# Altium footprint library Jamper.PcbLib: 17 footprints (part 1 of 2)
Each footprint in its own frame and in the unit in brackets; x right, y up, seen from the top. Pads: shape width x height; smd on the part's side, far side on the other; paste and mask are expansions set on the pad; w line width, h text height; cw(c..) or ccw(c..) is an arc to the next point about the centre after c.
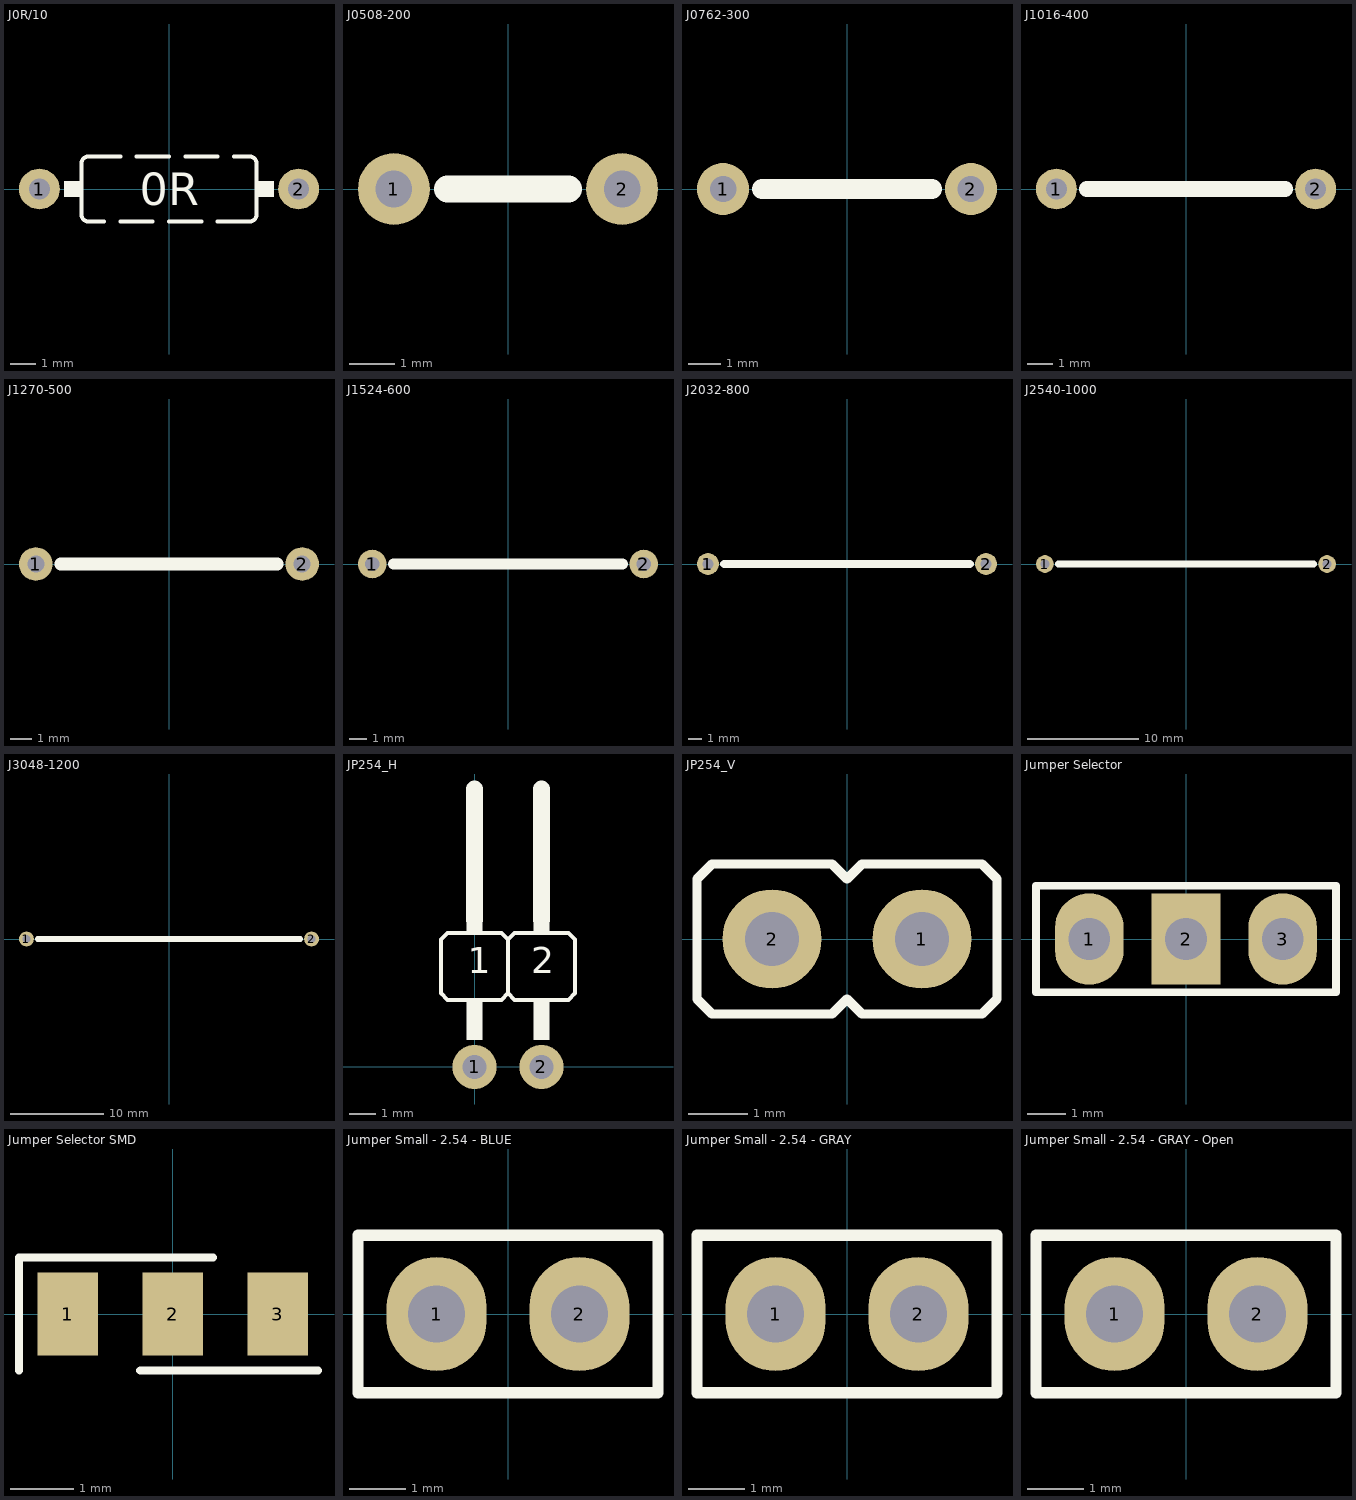
[diagram p0: the footprints below, top view; thin cyan lines are the x and y axes]

## J0R/10 [mil] "0 Ohm Jumper Resistor"
pads (2):
  round 63 hole 32: 1(-200,0) 2(200,0)
Top Overlay:
  rectangle: -162,-12 -135,12
  rectangle: 135,-12 162,12
  lines w6: -100,-50 -125,-50 cw(c-125,-40) -135,-40 -135,40 cw(c-125,40) -125,50 -75,50 ; -75,-50 -25,-50 ; -50,50 0,50 ; 0,-50 50,-50 ; 25,50 75,50 ; 75,-50 125,-50 ccw(c125,-40) 135,-40 135,40 ccw(c125,40) 125,50 100,50
  text "0R" at -45,-25 h50
3D body "SW3dPS-AXIAL_RESISTOR(0.25W).STEP": height 102.36, standoff -59.06, extent -215.74,-47.24 215.75,47.25

## J0508-200 [mil] "5.08 mm (200mil) Jumper wire"
pads (2):
  round 63 hole 32: 1(-100,0) 2(100,0)
Top Overlay:
  lines w24: -53,0 53,0
3D body: height 33.46, standoff 5.91, extent -113.78,-13.68 -86.22,13.68
3D body: height 33.46, standoff 5.91, extent 86.22,-13.68 113.78,13.68
3D body: height 33.44, standoff 5.93, extent -100,-13.67 100,13.78
3D body: height 19.68, standoff -78.74, extent -113.67,-13.75 -86.22,13.76
3D body: height 19.68, standoff -78.74, extent 86.33,-13.75 113.78,13.76

## J0762-300 [mil] "7.62 mm (300 mil) Jumper wire"
pads (2):
  round 63 hole 32: 1(-150,0) 2(150,0)
Top Overlay:
  lines w24: -103,0 103,0
3D body: height 19.68, standoff -78.74, extent 136.33,-13.8 163.78,13.7
3D body: height 19.68, standoff -78.74, extent -163.67,-13.75 -136.22,13.76
3D body: height 33.44, standoff 5.93, extent -150,-13.67 150,13.78
3D body: height 33.46, standoff 5.91, extent 136.23,-13.73 163.79,13.63
3D body: height 33.46, standoff 5.91, extent -163.78,-13.68 -136.22,13.68

## J1016-400 [mil] "10.16 mm (400 mil) Jumper wire"
pads (2):
  round 63 hole 32: 1(-200,0) 2(200,0)
Top Overlay:
  lines w24: -153,0 153,0
3D body: height 19.68, standoff -78.74, extent 186.33,-13.75 213.78,13.76
3D body: height 19.68, standoff -78.74, extent -213.67,-13.75 -186.22,13.76
3D body: height 33.44, standoff 5.93, extent -200,-13.67 200,13.78
3D body: height 33.46, standoff 5.91, extent 186.22,-13.68 213.78,13.68
3D body: height 33.46, standoff 5.91, extent -213.78,-13.68 -186.22,13.68

## J1270-500 [mil] "12.7 mm (500 mil) Jumper wire"
pads (2):
  round 63 hole 32: 1(-250,0) 2(250,0)
Top Overlay:
  lines w24: -203,0 203,0
3D body: height 33.46, standoff 5.91, extent -263.78,-13.68 -236.22,13.68
3D body: height 33.46, standoff 5.91, extent 236.23,-13.68 263.79,13.68
3D body: height 33.44, standoff 5.93, extent -250,-13.67 250,13.78
3D body: height 19.68, standoff -78.74, extent -263.67,-13.75 -236.22,13.76
3D body: height 19.68, standoff -78.74, extent 236.33,-13.75 263.78,13.76

## J1524-600 [mil] "15.24 mm (600 mil) Jumper wire"
pads (2):
  round 63 hole 32: 1(-300,0) 2(300,0)
Top Overlay:
  lines w24: -253,0 253,0
3D body: height 19.68, standoff -78.74, extent 286.33,-13.75 313.78,13.76
3D body: height 19.68, standoff -78.74, extent -313.67,-13.75 -286.22,13.76
3D body: height 33.44, standoff 5.93, extent -300,-13.67 300,13.78
3D body: height 33.46, standoff 5.91, extent 286.22,-13.68 313.78,13.68
3D body: height 33.46, standoff 5.91, extent -313.78,-13.68 -286.22,13.68

## J2032-800 [mil] "20.32 mm (800 mil) Jumper wire"
pads (2):
  round 63 hole 32: 1(-400,0) 2(400,0)
Top Overlay:
  lines w24: -353,0 353,0
3D body: height 33.46, standoff 5.91, extent -413.78,-13.68 -386.22,13.68
3D body: height 33.46, standoff 5.91, extent 386.22,-13.68 413.78,13.68
3D body: height 33.44, standoff 5.93, extent -400,-13.67 400,13.78
3D body: height 19.68, standoff -78.74, extent -413.67,-13.75 -386.22,13.76
3D body: height 19.68, standoff -78.74, extent 386.33,-13.75 413.78,13.76

## J2540-1000 [mil] "25.4 mm (1000 mil) Jumper wire"
pads (2):
  round 63 hole 32: 1(-500,0) 2(500,0)
Top Overlay:
  lines w24: -453,0 453,0
3D body: height 19.68, standoff -78.74, extent 486.33,-13.86 513.78,13.65
3D body: height 19.68, standoff -78.74, extent -513.67,-13.75 -486.22,13.76
3D body: height 33.44, standoff 5.93, extent -500,-13.67 500,13.78
3D body: height 33.46, standoff 5.91, extent 486.22,-13.79 513.78,13.57
3D body: height 33.46, standoff 5.91, extent -513.78,-13.68 -486.22,13.68

## J3048-1200 [mil] "30.48 mm (1200 mil) Jumper wire"
pads (2):
  round 63 hole 32: 1(-600,0) 2(600,0)
Top Overlay:
  lines w24: -553,0 553,0
3D body: height 33.46, standoff 5.91, extent -613.78,-13.68 -586.22,13.68
3D body: height 33.46, standoff 5.91, extent 586.22,-13.79 613.78,13.57
3D body: height 33.44, standoff 5.93, extent -600,-13.67 600,13.78
3D body: height 19.68, standoff -78.74, extent -613.67,-13.75 -586.22,13.76
3D body: height 19.68, standoff -78.74, extent 586.33,-13.86 613.78,13.65

## JP254_H [mil] "Jumper Header 2.54mm Pitch, Horizontal"
pads (2):
  round 66 hole 36: 1(0,0) 2(100,0)
Top Overlay:
  rectangle: -12,40 12,100
  rectangle: 88,40 112,100
  rectangle: 88,200 112,220
  rectangle: -12,200 12,220
  lines w6: 50,110 50,190 ; 50,110 60,100 140,100 150,110 150,190 140,200 60,200 50,190 ; 50,110 40,100 -40,100 -50,110 -50,190 -40,200 40,200 50,190
  lines w26: 0,220 0,415 ; 100,220 100,415
  text "1" at -10,140 h39
  text "2" at 85,140 h39
3D body "pin_header_aw140-ea-g02g.stp": height 100.39, standoff -92.52, extent -46.07,-12.96 146.06,425.62

## JP254_V [mil] "Jumper Header 2.54mm Pitch, Vertical"
height 393.7
pads (2):
  round 66 hole 36: 1(50,0) 2(-50,0)
Top Overlay:
  lines w6: -100,-40 -90,-50 -10,-50 0,-40 10,-50 90,-50 100,-40 100,40 90,50 10,50 0,40 -10,50 -90,50 -100,40 -100,-40
3D body "pin_header_aw140-eg-g02d.stp": height 322.83, standoff -118.11, extent -96.06,-49.21 100,49.22

## Jumper Selector [mm]
pads (3):
  oval 1.8x2.4 hole 1.1: 1(-2.54,0) 3(2.54,0)
  rect 1.8x2.4 hole 1.1: 2(0,0)
Top Overlay:
  lines w0.2: -3.94,-1.4 -3.94,1.4 3.94,1.4 3.94,-1.4 -3.94,-1.4
3D body: height 10.16, standoff 3.05, extent -3.785,-1.27 1.295,1.27
3D body "Header3.STEP": height 8.38, standoff -2.54, extent -3.784,-1.27 3.836,1.27

## Jumper Selector SMD [mm]
pads (3):
  rect 0.95x1.3 smd: 1(-1.65,0) 2(0,0) 3(1.65,0)
Top Overlay:
  lines w0.127: -2.413,-0.889 -2.413,0.889 0.635,0.889 ; -0.508,-0.889 2.286,-0.889
3D body "0805.STEP": height 0.6, standoff 0, extent -1.854,-0.635 0.178,0.635

## Jumper Small - 2.54 - BLUE [mil]
pads (2):
  oval 70x80 hole 40: 1(-50,0) 2(50,0)
Top Overlay:
  lines w7.87: -105.12,-55.12 105.12,-55.12 105.12,55.12 -105.12,55.12 -105.12,-55.12
3D body "jumper_akspt_z-blue.STEP": height 337.4, standoff 102.36, extent -98.03,-48.03 98.03,48.03
3D body "header02.STEP": height 330, standoff -100, extent -100,-50 100,50

## Jumper Small - 2.54 - GRAY [mil]
pads (2):
  oval 70x80 hole 40: 1(-50,0) 2(50,0)
Top Overlay:
  lines w7.87: -105.12,-55.12 105.12,-55.12 105.12,55.12 -105.12,55.12 -105.12,-55.12
3D body "jumper_akspt_g-grey.STEP": height 337.4, standoff 102.36, extent -98.03,-48.03 98.03,48.03
3D body "header02.STEP": height 330, standoff -100, extent -100,-50 100,50

## Jumper Small - 2.54 - GRAY - Open [mil]
pads (2):
  oval 70x80 hole 40: 1(-50,0) 2(50,0)
Top Overlay:
  lines w7.87: -105.12,-55.12 105.12,-55.12 105.12,55.12 -105.12,55.12 -105.12,-55.12
3D body "jumper_akspt_g-grey.STEP": height 337.4, standoff 102.36, extent 2.76,-48.03 198.82,48.04
3D body "header02.STEP": height 330, standoff -100, extent -100,-50 100,50